# Altium integrated library My_Microchip Microcontroller 8-Bit PIC18.IntLib: 1312 symbols (part 33 of 58)
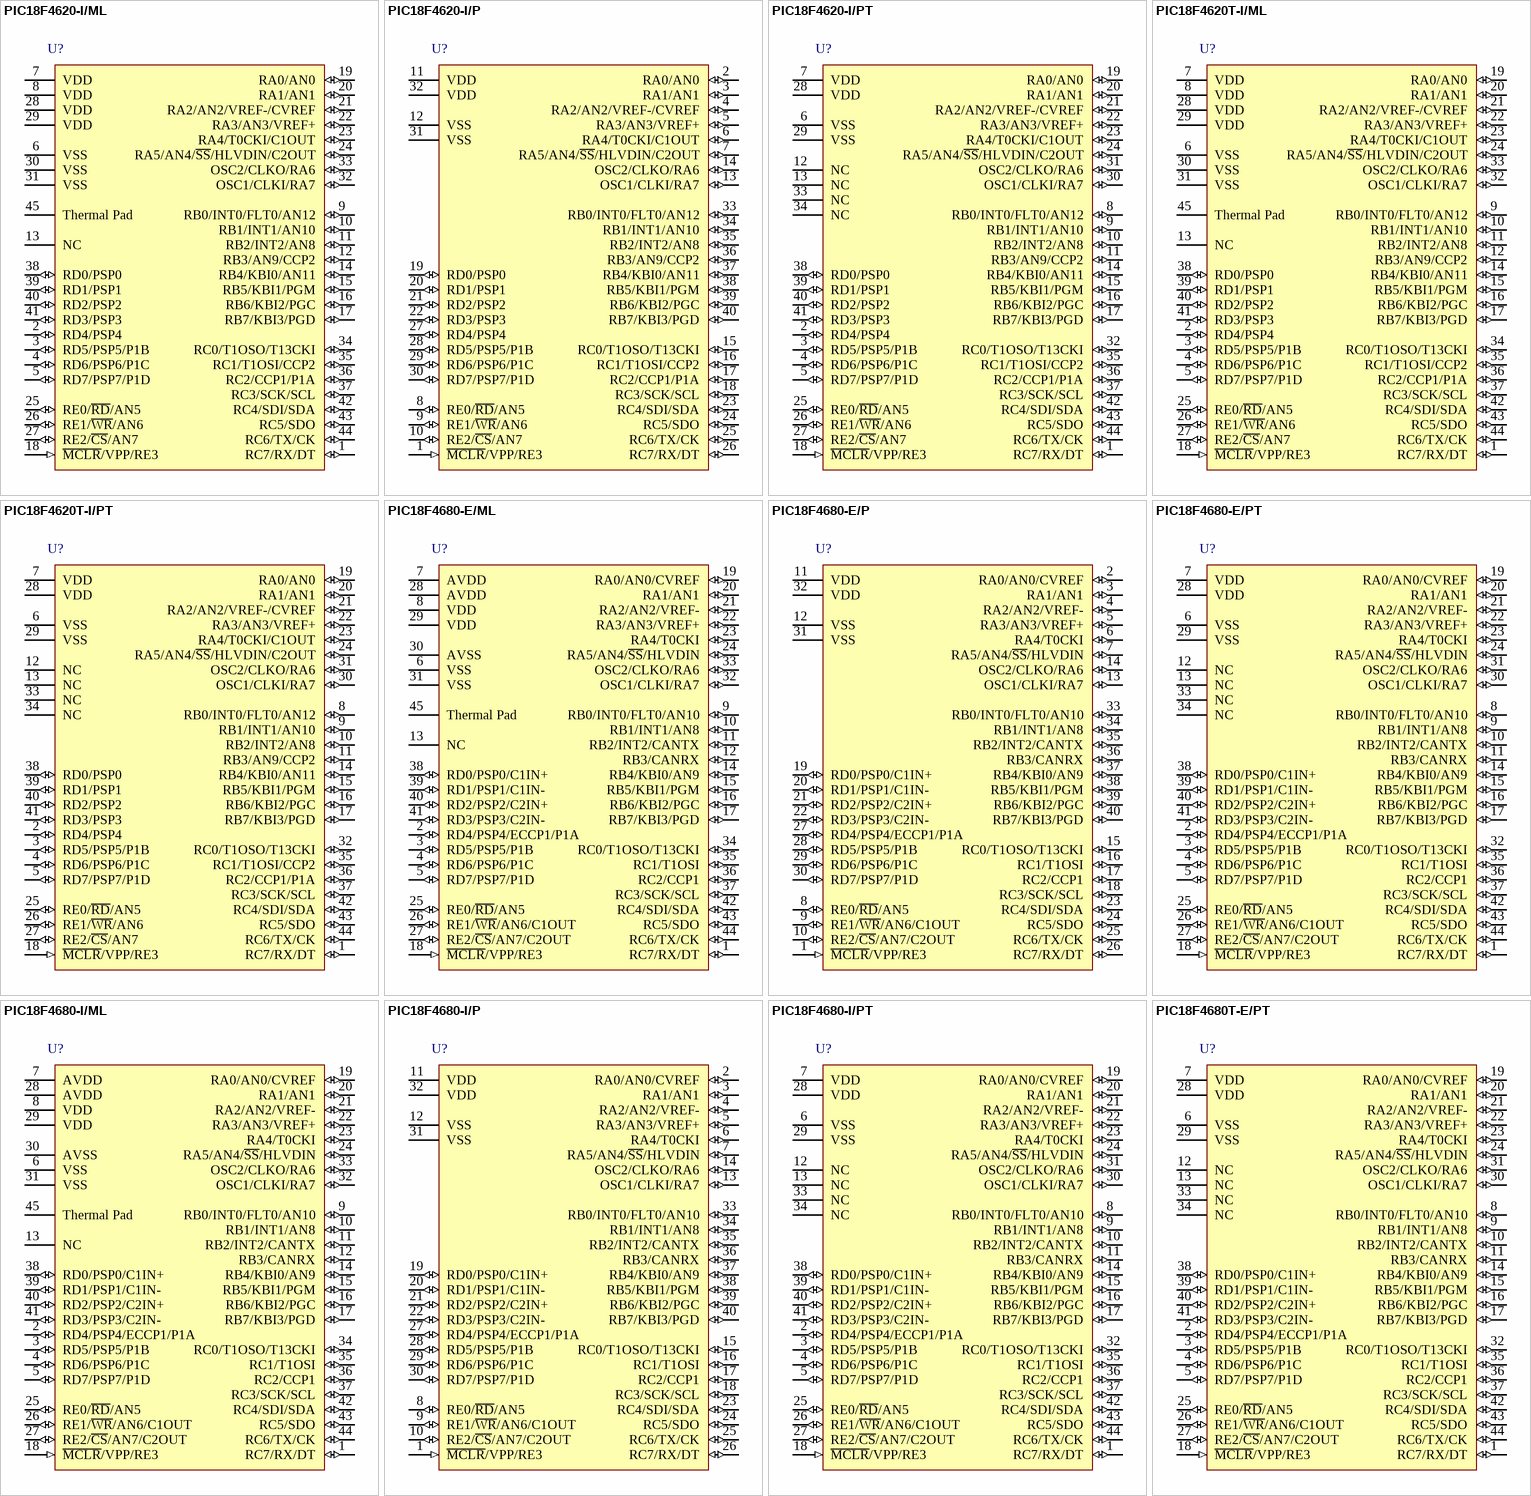
[diagram p181: symbols PIC18F4620-I/ML to PIC18F4680T-E/PT]

## PIC18F4680-I/P
designator U?
Enhanced Flash Microcontroller with ECAN Technology, 10-Bit A/D and nanoWatt Technology, 64K Flash, 40-Pin PDIP, Industrial Temperature Range; FirstPublished: 29-Jan-2009; DatasheetVersion: revC, Jan-2007; PackageVersion: revBB, Aug-2009; PackageReference: PDIP600-P40; Publisher: Altium Limited; PackageDescription: 40-Lead Plastic Dual In-Line (P) - 600 mil Body [PDIP]; Supplier 1: Digi-Key; Supplier Part Number 1: PIC18F4680-I/P-ND; Supplier 2: Farnell; Supplier Part Number 2: 1212706; Supplier 3: Farnell; Supplier Part Number 3: 1523813; Supplier 4: Newark; Supplier Part Number 4: 89H0717; ComponentLink1Description: Datasheet; ComponentLink1URL: http://ww1.microchip.com/downloads/en/DeviceDoc/39625c.pdf; ComponentLink2Description: Packaging Specification; ComponentLink2URL: http://www.microchip.com/stellent/groups/techpub_sg/documents/packagingspec/en012702.pdf; ComponentLink3Description: Microchip.com Home; ComponentLink3URL: http://www.microchip.com/
footprint PDIP600-P40 (DIP, 40-Leads, Row Spacing 15.24mm, Pitch 2.54mm, Body 51.8x13.5mm)
pins: 1 ~{MCLR}/VPP/RE3 (in), 2 RA0/AN0/CVREF (io), 3 RA1/AN1 (io), 4 RA2/AN2/VREF- (io), 5 RA3/AN3/VREF+ (io), 6 RA4/T0CKI (io), 7 RA5/AN4/~{SS}/HLVDIN (io), 8 RE0/~{RD}/AN5 (io), 9 RE1/~{WR}/AN6/C1OUT (io), 10 RE2/~{CS}/AN7/C2OUT (io), 11 VDD (power), 12 VSS (power), 13 OSC1/CLKI/RA7 (io), 14 OSC2/CLKO/RA6 (io), 15 RC0/T1OSO/T13CKI (io), 16 RC1/T1OSI (io), 17 RC2/CCP1 (io), 18 RC3/SCK/SCL (io), 19 RD0/PSP0/C1IN+ (io), 20 RD1/PSP1/C1IN- (io), 21 RD2/PSP2/C2IN+ (io), 22 RD3/PSP3/C2IN- (io), 23 RC4/SDI/SDA (io), 24 RC5/SDO (io), 25 RC6/TX/CK (io), 26 RC7/RX/DT (io), 27 RD4/PSP4/ECCP1/P1A (io), 28 RD5/PSP5/P1B (io), 29 RD6/PSP6/P1C (io), 30 RD7/PSP7/P1D (io), 31 VSS (power), 32 VDD (power), 33 RB0/INT0/FLT0/AN10 (io), 34 RB1/INT1/AN8 (io), 35 RB2/INT2/CANTX (io), 36 RB3/CANRX (io), 37 RB4/KBI0/AN9 (io), 38 RB5/KBI1/PGM (io), 39 RB6/KBI2/PGC (io), 40 RB7/KBI3/PGD (io)

## PIC18F4680-I/PT
designator U?
Enhanced Flash Microcontroller with ECAN Technology, 10-Bit A/D and nanoWatt Technology, 64K Flash, 44-Pin TQFP, Industrial Temperature Range; FirstPublished: 29-Jan-2009; DatasheetVersion: revC, Jan-2007; PackageVersion: revBB, Aug-2009; PackageReference: TQFP-PT44; Publisher: Altium Limited; PackageDescription: 44-Lead Plastic Thin Quad Flatpack (PT) - 10x10x1mm Body, 2.00mm [TQFP]; Supplier 1: Digi-Key; Supplier Part Number 1: PIC18F4680-I/PT-ND; Supplier 2: Farnell; Supplier Part Number 2: 1528364; Supplier 3: Farnell; Supplier Part Number 3: 1212707; Supplier 4: Newark; Supplier Part Number 4: 89H0718; Code_JEDEC: MS-026; ComponentLink1Description: Datasheet; ComponentLink1URL: http://ww1.microchip.com/downloads/en/DeviceDoc/39625c.pdf; ComponentLink2Description: Packaging Specification; ComponentLink2URL: http://www.microchip.com/stellent/groups/techpub_sg/documents/packagingspec/en012702.pdf; ComponentLink3Description: Microchip.com Home; ComponentLink3URL: http://www.microchip.com/
footprint TQFP-PT44_N (Thin QFP, 44-Leads, Body 10x10mm, Pitch 0.8mm, IPC Medium Density)
footprint TQFP-PT44_L (Thin QFP, 44-Leads, Body 10x10mm, Pitch 0.8mm, IPC High Density)
footprint TQFP-PT44_M (Thin QFP, 44-Leads, Body 10x10mm, Pitch 0.8mm, IPC Low Density)
pins: 1 RC7/RX/DT (io), 2 RD4/PSP4/ECCP1/P1A (io), 3 RD5/PSP5/P1B (io), 4 RD6/PSP6/P1C (io), 5 RD7/PSP7/P1D (io), 6 VSS (power), 7 VDD (power), 8 RB0/INT0/FLT0/AN10 (io), 9 RB1/INT1/AN8 (io), 10 RB2/INT2/CANTX (io), 11 RB3/CANRX (io), 12 NC, 13 NC, 14 RB4/KBI0/AN9 (io), 15 RB5/KBI1/PGM (io), 16 RB6/KBI2/PGC (io), 17 RB7/KBI3/PGD (io), 18 ~{MCLR}/VPP/RE3 (in), 19 RA0/AN0/CVREF (io), 20 RA1/AN1 (io), 21 RA2/AN2/VREF- (io), 22 RA3/AN3/VREF+ (io), 23 RA4/T0CKI (io), 24 RA5/AN4/~{SS}/HLVDIN (io), 25 RE0/~{RD}/AN5 (io), 26 RE1/~{WR}/AN6/C1OUT (io), 27 RE2/~{CS}/AN7/C2OUT (io), 28 VDD (power), 29 VSS (power), 30 OSC1/CLKI/RA7 (io), 31 OSC2/CLKO/RA6 (io), 32 RC0/T1OSO/T13CKI (io), 33 NC, 34 NC, 35 RC1/T1OSI (io), 36 RC2/CCP1 (io), 37 RC3/SCK/SCL (io), 38 RD0/PSP0/C1IN+ (io), 39 RD1/PSP1/C1IN- (io), 40 RD2/PSP2/C2IN+ (io), 41 RD3/PSP3/C2IN- (io), 42 RC4/SDI/SDA (io), 43 RC5/SDO (io), 44 RC6/TX/CK (io)

## PIC18F4680T-E/PT
designator U?
Enhanced Flash Microcontroller with ECAN Technology, 10-Bit A/D and nanoWatt Technology, 64K Flash, 44-Pin TQFP, Extended Temperature Range, Tape and Reel; FirstPublished: 2-Dec-2009; DatasheetVersion: revC, Jan-2007; PackageVersion: revBB, Aug-2009; PackageReference: TQFP-PT44; Publisher: Altium Limited; PackageDescription: 44-Lead Plastic Thin Quad Flatpack (PT) - 10x10x1mm Body, 2.00mm [TQFP]; Code_JEDEC: MS-026; ComponentLink1Description: Datasheet; ComponentLink1URL: http://ww1.microchip.com/downloads/en/DeviceDoc/39625c.pdf; ComponentLink2Description: Packaging Specification; ComponentLink2URL: http://www.microchip.com/stellent/groups/techpub_sg/documents/packagingspec/en012702.pdf; ComponentLink3Description: Microchip.com Home; ComponentLink3URL: http://www.microchip.com/
footprint TQFP-PT44_N (Thin QFP, 44-Leads, Body 10x10mm, Pitch 0.8mm, IPC Medium Density)
footprint TQFP-PT44_L (Thin QFP, 44-Leads, Body 10x10mm, Pitch 0.8mm, IPC High Density)
footprint TQFP-PT44_M (Thin QFP, 44-Leads, Body 10x10mm, Pitch 0.8mm, IPC Low Density)
pins: 1 RC7/RX/DT (io), 2 RD4/PSP4/ECCP1/P1A (io), 3 RD5/PSP5/P1B (io), 4 RD6/PSP6/P1C (io), 5 RD7/PSP7/P1D (io), 6 VSS (power), 7 VDD (power), 8 RB0/INT0/FLT0/AN10 (io), 9 RB1/INT1/AN8 (io), 10 RB2/INT2/CANTX (io), 11 RB3/CANRX (io), 12 NC, 13 NC, 14 RB4/KBI0/AN9 (io), 15 RB5/KBI1/PGM (io), 16 RB6/KBI2/PGC (io), 17 RB7/KBI3/PGD (io), 18 ~{MCLR}/VPP/RE3 (in), 19 RA0/AN0/CVREF (io), 20 RA1/AN1 (io), 21 RA2/AN2/VREF- (io), 22 RA3/AN3/VREF+ (io), 23 RA4/T0CKI (io), 24 RA5/AN4/~{SS}/HLVDIN (io), 25 RE0/~{RD}/AN5 (io), 26 RE1/~{WR}/AN6/C1OUT (io), 27 RE2/~{CS}/AN7/C2OUT (io), 28 VDD (power), 29 VSS (power), 30 OSC1/CLKI/RA7 (io), 31 OSC2/CLKO/RA6 (io), 32 RC0/T1OSO/T13CKI (io), 33 NC, 34 NC, 35 RC1/T1OSI (io), 36 RC2/CCP1 (io), 37 RC3/SCK/SCL (io), 38 RD0/PSP0/C1IN+ (io), 39 RD1/PSP1/C1IN- (io), 40 RD2/PSP2/C2IN+ (io), 41 RD3/PSP3/C2IN- (io), 42 RC4/SDI/SDA (io), 43 RC5/SDO (io), 44 RC6/TX/CK (io)

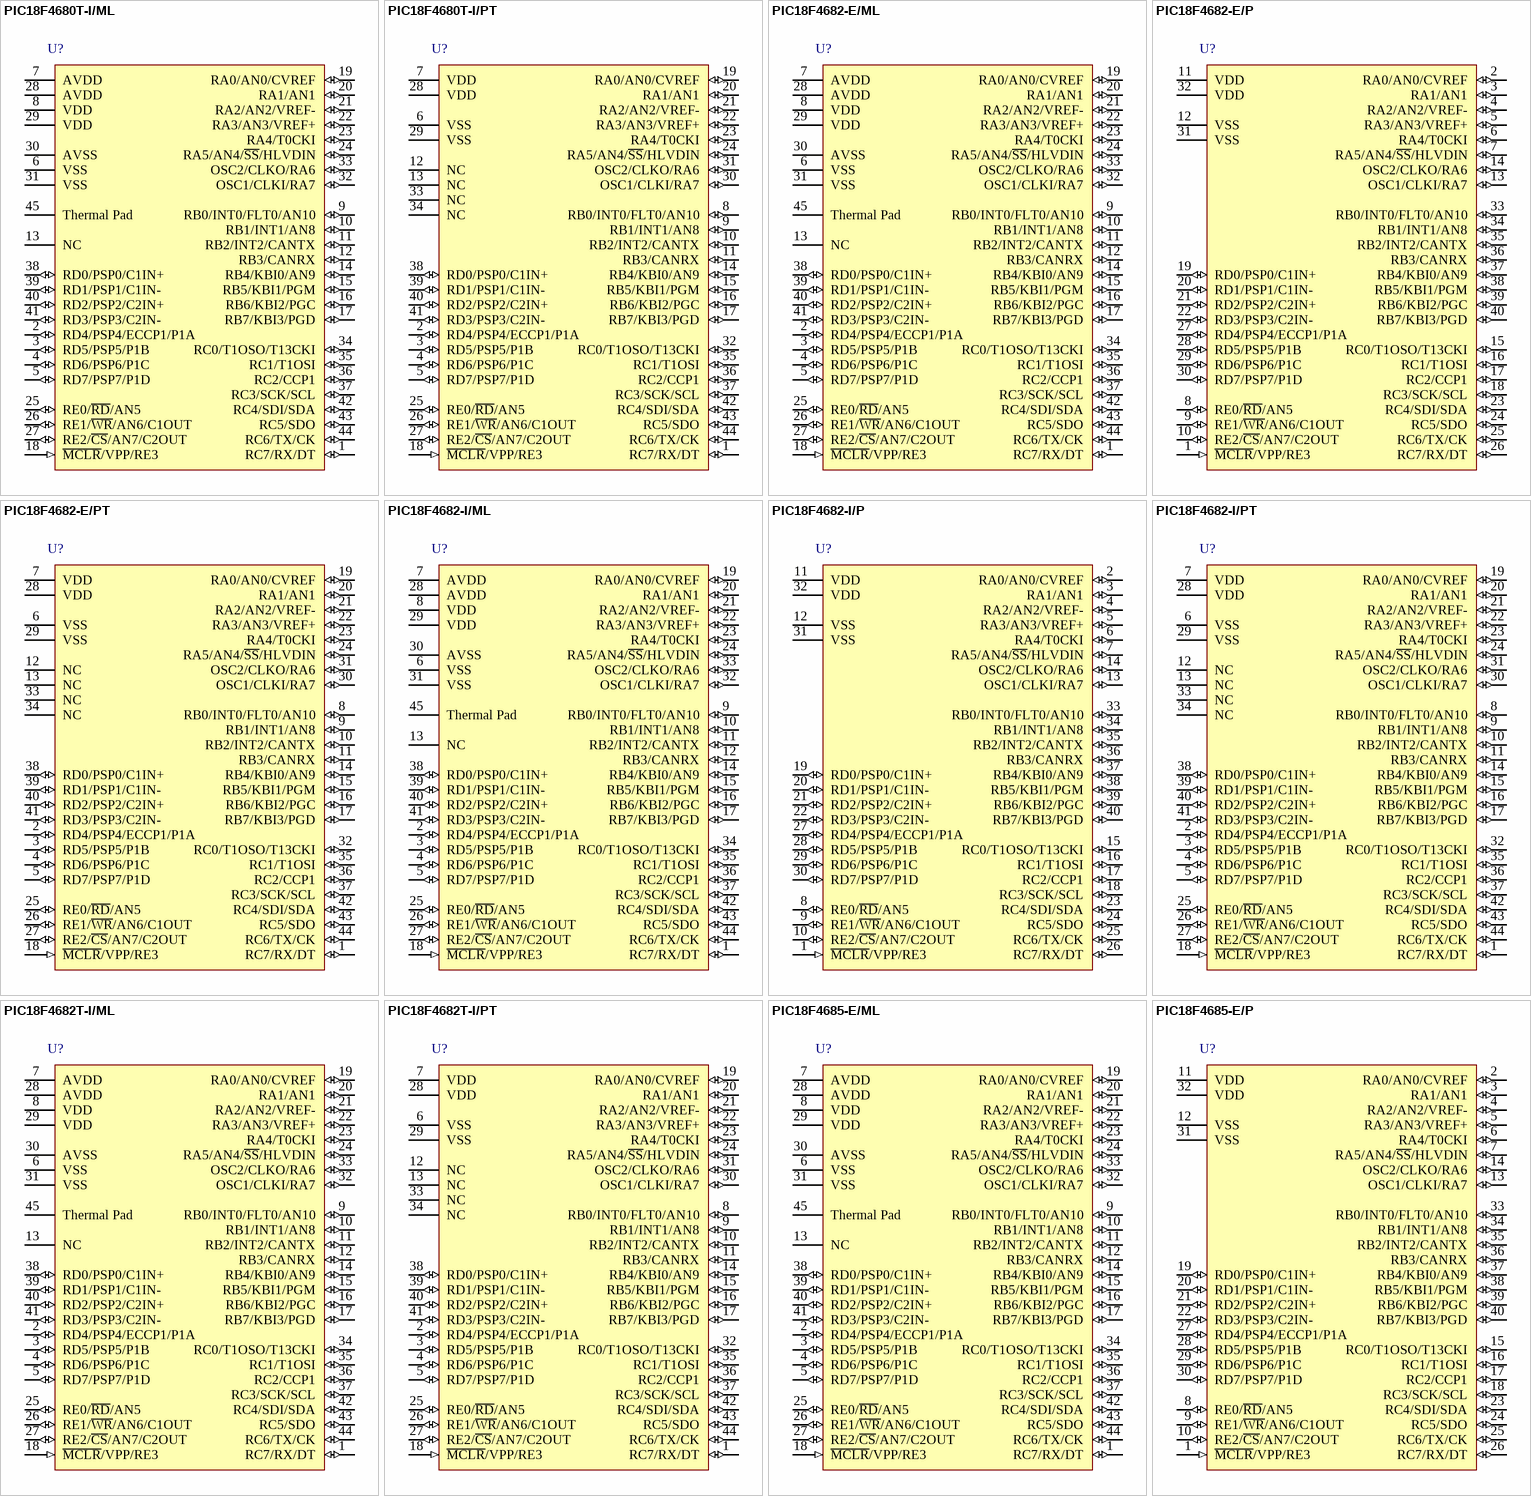
[diagram p81: symbols PIC18F4680T-I/ML to PIC18F4685-E/P]

## PIC18F4680T-I/ML
designator U?
Enhanced Flash Microcontroller with ECAN Technology, 10-Bit A/D and nanoWatt Technology, 64K Flash, 44-Pin QFN, Industrial Temperature Range, Tape and Reel; FirstPublished: 29-Jan-2009; DatasheetVersion: revC, Jan-2007; PackageVersion: revBB, Aug-2009; PackageReference: QFN-ML44; Publisher: Altium Limited; PackageDescription: 44-Lead Plastic Quad Flat, No Lead Package (ML) - 8x8 mm Body [QFN]; Supplier 1: Digi-Key; Supplier Part Number 1: PIC18F4680T-I/ML-ND; Supplier 2: Newark; Supplier Part Number 2: 89H0719; Code_JEDEC: MO-220; Code_IPC: QFN65P800X800-44V2; ComponentLink1Description: Datasheet; ComponentLink1URL: http://ww1.microchip.com/downloads/en/DeviceDoc/39625c.pdf; ComponentLink2Description: Packaging Specification; ComponentLink2URL: http://www.microchip.com/stellent/groups/techpub_sg/documents/packagingspec/en012702.pdf; ComponentLink3Description: Microchip.com Home; ComponentLink3URL: http://www.microchip.com/
footprint QFN-ML44_N (QFN, 44-Leads, Body 8x8 mm, Pitch 0.65mm, IPC Medium Density)
footprint QFN-ML44_L (QFN, 44-Leads, Body 8x8 mm, Pitch 0.65mm, IPC High Density)
footprint QFN-ML44_M (QFN, 44-Leads, Body 8x8 mm, Pitch 0.65mm, IPC Low Density)
pins: 1 RC7/RX/DT (io), 2 RD4/PSP4/ECCP1/P1A (io), 3 RD5/PSP5/P1B (io), 4 RD6/PSP6/P1C (io), 5 RD7/PSP7/P1D (io), 6 VSS (power), 7 AVDD (power), 8 VDD (power), 9 RB0/INT0/FLT0/AN10 (io), 10 RB1/INT1/AN8 (io), 11 RB2/INT2/CANTX (io), 12 RB3/CANRX (io), 13 NC, 14 RB4/KBI0/AN9 (io), 15 RB5/KBI1/PGM (io), 16 RB6/KBI2/PGC (io), 17 RB7/KBI3/PGD (io), 18 ~{MCLR}/VPP/RE3 (in), 19 RA0/AN0/CVREF (io), 20 RA1/AN1 (io), 21 RA2/AN2/VREF- (io), 22 RA3/AN3/VREF+ (io), 23 RA4/T0CKI (io), 24 RA5/AN4/~{SS}/HLVDIN (io), 25 RE0/~{RD}/AN5 (io), 26 RE1/~{WR}/AN6/C1OUT (io), 27 RE2/~{CS}/AN7/C2OUT (io), 28 AVDD (power), 29 VDD (power), 30 AVSS (power), 31 VSS (power), 32 OSC1/CLKI/RA7 (io), 33 OSC2/CLKO/RA6 (io), 34 RC0/T1OSO/T13CKI (io), 35 RC1/T1OSI (io), 36 RC2/CCP1 (io), 37 RC3/SCK/SCL (io), 38 RD0/PSP0/C1IN+ (io), 39 RD1/PSP1/C1IN- (io), 40 RD2/PSP2/C2IN+ (io), 41 RD3/PSP3/C2IN- (io), 42 RC4/SDI/SDA (io), 43 RC5/SDO (io), 44 RC6/TX/CK (io), 45 Thermal Pad (power)

## PIC18F4680T-I/PT
designator U?
Enhanced Flash Microcontroller with ECAN Technology, 10-Bit A/D and nanoWatt Technology, 64K Flash, 44-Pin TQFP, Industrial Temperature Range, Tape and Reel; FirstPublished: 29-Jan-2009; DatasheetVersion: revC, Jan-2007; PackageVersion: revBB, Aug-2009; PackageReference: TQFP-PT44; Publisher: Altium Limited; PackageDescription: 44-Lead Plastic Thin Quad Flatpack (PT) - 10x10x1mm Body, 2.00mm [TQFP]; Supplier 1: Digi-Key; Supplier Part Number 1: PIC18F4680T-I/PT-ND; Supplier 2: Newark; Supplier Part Number 2: 89H0720; Code_JEDEC: MS-026; ComponentLink1Description: Datasheet; ComponentLink1URL: http://ww1.microchip.com/downloads/en/DeviceDoc/39625c.pdf; ComponentLink2Description: Packaging Specification; ComponentLink2URL: http://www.microchip.com/stellent/groups/techpub_sg/documents/packagingspec/en012702.pdf; ComponentLink3Description: Microchip.com Home; ComponentLink3URL: http://www.microchip.com/
footprint TQFP-PT44_N (Thin QFP, 44-Leads, Body 10x10mm, Pitch 0.8mm, IPC Medium Density)
footprint TQFP-PT44_L (Thin QFP, 44-Leads, Body 10x10mm, Pitch 0.8mm, IPC High Density)
footprint TQFP-PT44_M (Thin QFP, 44-Leads, Body 10x10mm, Pitch 0.8mm, IPC Low Density)
pins: 1 RC7/RX/DT (io), 2 RD4/PSP4/ECCP1/P1A (io), 3 RD5/PSP5/P1B (io), 4 RD6/PSP6/P1C (io), 5 RD7/PSP7/P1D (io), 6 VSS (power), 7 VDD (power), 8 RB0/INT0/FLT0/AN10 (io), 9 RB1/INT1/AN8 (io), 10 RB2/INT2/CANTX (io), 11 RB3/CANRX (io), 12 NC, 13 NC, 14 RB4/KBI0/AN9 (io), 15 RB5/KBI1/PGM (io), 16 RB6/KBI2/PGC (io), 17 RB7/KBI3/PGD (io), 18 ~{MCLR}/VPP/RE3 (in), 19 RA0/AN0/CVREF (io), 20 RA1/AN1 (io), 21 RA2/AN2/VREF- (io), 22 RA3/AN3/VREF+ (io), 23 RA4/T0CKI (io), 24 RA5/AN4/~{SS}/HLVDIN (io), 25 RE0/~{RD}/AN5 (io), 26 RE1/~{WR}/AN6/C1OUT (io), 27 RE2/~{CS}/AN7/C2OUT (io), 28 VDD (power), 29 VSS (power), 30 OSC1/CLKI/RA7 (io), 31 OSC2/CLKO/RA6 (io), 32 RC0/T1OSO/T13CKI (io), 33 NC, 34 NC, 35 RC1/T1OSI (io), 36 RC2/CCP1 (io), 37 RC3/SCK/SCL (io), 38 RD0/PSP0/C1IN+ (io), 39 RD1/PSP1/C1IN- (io), 40 RD2/PSP2/C2IN+ (io), 41 RD3/PSP3/C2IN- (io), 42 RC4/SDI/SDA (io), 43 RC5/SDO (io), 44 RC6/TX/CK (io)

## PIC18F4682-E/ML
designator U?
Enhanced Flash Microcontroller with ECAN Technology, 10-Bit A/D and nanoWatt Technology, 80K Flash, 44-Pin QFN, Extended Temperature Range; FirstPublished: 29-Jan-2009; LatestRevisionDate: 02-Dec-2009; LatestRevisionNote: Updated to datasheet revision C, Oct-2009; DatasheetVersion: revC, Oct-2009; PackageVersion: revBB, Aug-2009; PackageReference: QFN-ML44; Publisher: Altium Limited; PackageDescription: 44-Lead Plastic Quad Flat, No Lead Package (ML) - 8x8 mm Body [QFN]; Supplier 1: Digi-Key; Supplier Part Number 1: PIC18F4682-E/ML-ND; Supplier 2: Newark; Supplier Part Number 2: 88K6061; Code_JEDEC: MO-220; Code_IPC: QFN65P800X800-44V2; ComponentLink1Description: Datasheet; ComponentLink1URL: http://ww1.microchip.com/downloads/en/DeviceDoc/39761c.pdf; ComponentLink2Description: Packaging Specification; ComponentLink2URL: http://www.microchip.com/stellent/groups/techpub_sg/documents/packagingspec/en012702.pdf; ComponentLink3Description: Microchip.com Home; ComponentLink3URL: http://www.microchip.com/
footprint QFN-ML44_N (QFN, 44-Leads, Body 8x8 mm, Pitch 0.65mm, IPC Medium Density)
footprint QFN-ML44_L (QFN, 44-Leads, Body 8x8 mm, Pitch 0.65mm, IPC High Density)
footprint QFN-ML44_M (QFN, 44-Leads, Body 8x8 mm, Pitch 0.65mm, IPC Low Density)
pins: 1 RC7/RX/DT (io), 2 RD4/PSP4/ECCP1/P1A (io), 3 RD5/PSP5/P1B (io), 4 RD6/PSP6/P1C (io), 5 RD7/PSP7/P1D (io), 6 VSS (power), 7 AVDD (power), 8 VDD (power), 9 RB0/INT0/FLT0/AN10 (io), 10 RB1/INT1/AN8 (io), 11 RB2/INT2/CANTX (io), 12 RB3/CANRX (io), 13 NC, 14 RB4/KBI0/AN9 (io), 15 RB5/KBI1/PGM (io), 16 RB6/KBI2/PGC (io), 17 RB7/KBI3/PGD (io), 18 ~{MCLR}/VPP/RE3 (in), 19 RA0/AN0/CVREF (io), 20 RA1/AN1 (io), 21 RA2/AN2/VREF- (io), 22 RA3/AN3/VREF+ (io), 23 RA4/T0CKI (io), 24 RA5/AN4/~{SS}/HLVDIN (io), 25 RE0/~{RD}/AN5 (io), 26 RE1/~{WR}/AN6/C1OUT (io), 27 RE2/~{CS}/AN7/C2OUT (io), 28 AVDD (power), 29 VDD (power), 30 AVSS (power), 31 VSS (power), 32 OSC1/CLKI/RA7 (io), 33 OSC2/CLKO/RA6 (io), 34 RC0/T1OSO/T13CKI (io), 35 RC1/T1OSI (io), 36 RC2/CCP1 (io), 37 RC3/SCK/SCL (io), 38 RD0/PSP0/C1IN+ (io), 39 RD1/PSP1/C1IN- (io), 40 RD2/PSP2/C2IN+ (io), 41 RD3/PSP3/C2IN- (io), 42 RC4/SDI/SDA (io), 43 RC5/SDO (io), 44 RC6/TX/CK (io), 45 Thermal Pad (power)

## PIC18F4682-E/P
designator U?
Enhanced Flash Microcontroller with ECAN Technology, 10-Bit A/D and nanoWatt Technology, 80K Flash, 40-Pin PDIP, Extended Temperature Range; FirstPublished: 29-Jan-2009; LatestRevisionDate: 02-Dec-2009; LatestRevisionNote: Updated to datasheet revision C, Oct-2009; DatasheetVersion: revC, Oct-2009; PackageVersion: revBB, Aug-2009; PackageReference: PDIP600-P40; Publisher: Altium Limited; PackageDescription: 40-Lead Plastic Dual In-Line (P) - 600 mil Body [PDIP]; Supplier 1: Digi-Key; Supplier Part Number 1: PIC18F4682-E/P-ND; Supplier 2: Newark; Supplier Part Number 2: 88K6062; ComponentLink1Description: Datasheet; ComponentLink1URL: http://ww1.microchip.com/downloads/en/DeviceDoc/39761c.pdf; ComponentLink2Description: Packaging Specification; ComponentLink2URL: http://www.microchip.com/stellent/groups/techpub_sg/documents/packagingspec/en012702.pdf; ComponentLink3Description: Microchip.com Home; ComponentLink3URL: http://www.microchip.com/
footprint PDIP600-P40 (DIP, 40-Leads, Row Spacing 15.24mm, Pitch 2.54mm, Body 51.8x13.5mm)
pins: 1 ~{MCLR}/VPP/RE3 (in), 2 RA0/AN0/CVREF (io), 3 RA1/AN1 (io), 4 RA2/AN2/VREF- (io), 5 RA3/AN3/VREF+ (io), 6 RA4/T0CKI (io), 7 RA5/AN4/~{SS}/HLVDIN (io), 8 RE0/~{RD}/AN5 (io), 9 RE1/~{WR}/AN6/C1OUT (io), 10 RE2/~{CS}/AN7/C2OUT (io), 11 VDD (power), 12 VSS (power), 13 OSC1/CLKI/RA7 (io), 14 OSC2/CLKO/RA6 (io), 15 RC0/T1OSO/T13CKI (io), 16 RC1/T1OSI (io), 17 RC2/CCP1 (io), 18 RC3/SCK/SCL (io), 19 RD0/PSP0/C1IN+ (io), 20 RD1/PSP1/C1IN- (io), 21 RD2/PSP2/C2IN+ (io), 22 RD3/PSP3/C2IN- (io), 23 RC4/SDI/SDA (io), 24 RC5/SDO (io), 25 RC6/TX/CK (io), 26 RC7/RX/DT (io), 27 RD4/PSP4/ECCP1/P1A (io), 28 RD5/PSP5/P1B (io), 29 RD6/PSP6/P1C (io), 30 RD7/PSP7/P1D (io), 31 VSS (power), 32 VDD (power), 33 RB0/INT0/FLT0/AN10 (io), 34 RB1/INT1/AN8 (io), 35 RB2/INT2/CANTX (io), 36 RB3/CANRX (io), 37 RB4/KBI0/AN9 (io), 38 RB5/KBI1/PGM (io), 39 RB6/KBI2/PGC (io), 40 RB7/KBI3/PGD (io)

## PIC18F4682-E/PT
designator U?
Enhanced Flash Microcontroller with ECAN Technology, 10-Bit A/D and nanoWatt Technology, 80K Flash, 44-Pin TQFP, Extended Temperature Range; FirstPublished: 29-Jan-2009; LatestRevisionDate: 02-Dec-2009; LatestRevisionNote: Updated to datasheet revision C, Oct-2009; DatasheetVersion: revC, Oct-2009; PackageVersion: revBB, Aug-2009; PackageReference: TQFP-PT44; Publisher: Altium Limited; PackageDescription: 44-Lead Plastic Thin Quad Flatpack (PT) - 10x10x1mm Body, 2.00mm [TQFP]; Supplier 1: Digi-Key; Supplier Part Number 1: PIC18F4682-E/PT-ND; Supplier 2: Newark; Supplier Part Number 2: 88K6063; Code_JEDEC: MS-026; ComponentLink1Description: Datasheet; ComponentLink1URL: http://ww1.microchip.com/downloads/en/DeviceDoc/39761c.pdf; ComponentLink2Description: Packaging Specification; ComponentLink2URL: http://www.microchip.com/stellent/groups/techpub_sg/documents/packagingspec/en012702.pdf; ComponentLink3Description: Microchip.com Home; ComponentLink3URL: http://www.microchip.com/
footprint TQFP-PT44_N (Thin QFP, 44-Leads, Body 10x10mm, Pitch 0.8mm, IPC Medium Density)
footprint TQFP-PT44_L (Thin QFP, 44-Leads, Body 10x10mm, Pitch 0.8mm, IPC High Density)
footprint TQFP-PT44_M (Thin QFP, 44-Leads, Body 10x10mm, Pitch 0.8mm, IPC Low Density)
pins: 1 RC7/RX/DT (io), 2 RD4/PSP4/ECCP1/P1A (io), 3 RD5/PSP5/P1B (io), 4 RD6/PSP6/P1C (io), 5 RD7/PSP7/P1D (io), 6 VSS (power), 7 VDD (power), 8 RB0/INT0/FLT0/AN10 (io), 9 RB1/INT1/AN8 (io), 10 RB2/INT2/CANTX (io), 11 RB3/CANRX (io), 12 NC, 13 NC, 14 RB4/KBI0/AN9 (io), 15 RB5/KBI1/PGM (io), 16 RB6/KBI2/PGC (io), 17 RB7/KBI3/PGD (io), 18 ~{MCLR}/VPP/RE3 (in), 19 RA0/AN0/CVREF (io), 20 RA1/AN1 (io), 21 RA2/AN2/VREF- (io), 22 RA3/AN3/VREF+ (io), 23 RA4/T0CKI (io), 24 RA5/AN4/~{SS}/HLVDIN (io), 25 RE0/~{RD}/AN5 (io), 26 RE1/~{WR}/AN6/C1OUT (io), 27 RE2/~{CS}/AN7/C2OUT (io), 28 VDD (power), 29 VSS (power), 30 OSC1/CLKI/RA7 (io), 31 OSC2/CLKO/RA6 (io), 32 RC0/T1OSO/T13CKI (io), 33 NC, 34 NC, 35 RC1/T1OSI (io), 36 RC2/CCP1 (io), 37 RC3/SCK/SCL (io), 38 RD0/PSP0/C1IN+ (io), 39 RD1/PSP1/C1IN- (io), 40 RD2/PSP2/C2IN+ (io), 41 RD3/PSP3/C2IN- (io), 42 RC4/SDI/SDA (io), 43 RC5/SDO (io), 44 RC6/TX/CK (io)

## PIC18F4682-I/ML
designator U?
Enhanced Flash Microcontroller with ECAN Technology, 10-Bit A/D and nanoWatt Technology, 80K Flash, 44-Pin QFN, Industrial Temperature Range; FirstPublished: 29-Jan-2009; LatestRevisionDate: 02-Dec-2009; LatestRevisionNote: Updated to datasheet revision C, Oct-2009; DatasheetVersion: revC, Oct-2009; PackageVersion: revBB, Aug-2009; PackageReference: QFN-ML44; Publisher: Altium Limited; PackageDescription: 44-Lead Plastic Quad Flat, No Lead Package (ML) - 8x8 mm Body [QFN]; Supplier 1: Digi-Key; Supplier Part Number 1: PIC18F4682-I/ML-ND; Supplier 2: Newark; Supplier Part Number 2: 88K6064; Code_JEDEC: MO-220; Code_IPC: QFN65P800X800-44V2; ComponentLink1Description: Datasheet; ComponentLink1URL: http://ww1.microchip.com/downloads/en/DeviceDoc/39761c.pdf; ComponentLink2Description: Packaging Specification; ComponentLink2URL: http://www.microchip.com/stellent/groups/techpub_sg/documents/packagingspec/en012702.pdf; ComponentLink3Description: Microchip.com Home; ComponentLink3URL: http://www.microchip.com/
footprint QFN-ML44_N (QFN, 44-Leads, Body 8x8 mm, Pitch 0.65mm, IPC Medium Density)
footprint QFN-ML44_L (QFN, 44-Leads, Body 8x8 mm, Pitch 0.65mm, IPC High Density)
footprint QFN-ML44_M (QFN, 44-Leads, Body 8x8 mm, Pitch 0.65mm, IPC Low Density)
pins: 1 RC7/RX/DT (io), 2 RD4/PSP4/ECCP1/P1A (io), 3 RD5/PSP5/P1B (io), 4 RD6/PSP6/P1C (io), 5 RD7/PSP7/P1D (io), 6 VSS (power), 7 AVDD (power), 8 VDD (power), 9 RB0/INT0/FLT0/AN10 (io), 10 RB1/INT1/AN8 (io), 11 RB2/INT2/CANTX (io), 12 RB3/CANRX (io), 13 NC, 14 RB4/KBI0/AN9 (io), 15 RB5/KBI1/PGM (io), 16 RB6/KBI2/PGC (io), 17 RB7/KBI3/PGD (io), 18 ~{MCLR}/VPP/RE3 (in), 19 RA0/AN0/CVREF (io), 20 RA1/AN1 (io), 21 RA2/AN2/VREF- (io), 22 RA3/AN3/VREF+ (io), 23 RA4/T0CKI (io), 24 RA5/AN4/~{SS}/HLVDIN (io), 25 RE0/~{RD}/AN5 (io), 26 RE1/~{WR}/AN6/C1OUT (io), 27 RE2/~{CS}/AN7/C2OUT (io), 28 AVDD (power), 29 VDD (power), 30 AVSS (power), 31 VSS (power), 32 OSC1/CLKI/RA7 (io), 33 OSC2/CLKO/RA6 (io), 34 RC0/T1OSO/T13CKI (io), 35 RC1/T1OSI (io), 36 RC2/CCP1 (io), 37 RC3/SCK/SCL (io), 38 RD0/PSP0/C1IN+ (io), 39 RD1/PSP1/C1IN- (io), 40 RD2/PSP2/C2IN+ (io), 41 RD3/PSP3/C2IN- (io), 42 RC4/SDI/SDA (io), 43 RC5/SDO (io), 44 RC6/TX/CK (io), 45 Thermal Pad (power)

## PIC18F4682-I/P
designator U?
Enhanced Flash Microcontroller with ECAN Technology, 10-Bit A/D and nanoWatt Technology, 80K Flash, 40-Pin PDIP, Industrial Temperature Range; FirstPublished: 29-Jan-2009; LatestRevisionDate: 02-Dec-2009; LatestRevisionNote: Updated to datasheet revision C, Oct-2009; DatasheetVersion: revC, Oct-2009; PackageVersion: revBB, Aug-2009; PackageReference: PDIP600-P40; Publisher: Altium Limited; PackageDescription: 40-Lead Plastic Dual In-Line (P) - 600 mil Body [PDIP]; Supplier 1: Digi-Key; Supplier Part Number 1: PIC18F4682-I/P-ND; Supplier 2: Farnell; Supplier Part Number 2: 1579609; Supplier 3: Newark; Supplier Part Number 3: 88K6065; ComponentLink1Description: Datasheet; ComponentLink1URL: http://ww1.microchip.com/downloads/en/DeviceDoc/39761c.pdf; ComponentLink2Description: Packaging Specification; ComponentLink2URL: http://www.microchip.com/stellent/groups/techpub_sg/documents/packagingspec/en012702.pdf; ComponentLink3Description: Microchip.com Home; ComponentLink3URL: http://www.microchip.com/
footprint PDIP600-P40 (DIP, 40-Leads, Row Spacing 15.24mm, Pitch 2.54mm, Body 51.8x13.5mm)
pins: 1 ~{MCLR}/VPP/RE3 (in), 2 RA0/AN0/CVREF (io), 3 RA1/AN1 (io), 4 RA2/AN2/VREF- (io), 5 RA3/AN3/VREF+ (io), 6 RA4/T0CKI (io), 7 RA5/AN4/~{SS}/HLVDIN (io), 8 RE0/~{RD}/AN5 (io), 9 RE1/~{WR}/AN6/C1OUT (io), 10 RE2/~{CS}/AN7/C2OUT (io), 11 VDD (power), 12 VSS (power), 13 OSC1/CLKI/RA7 (io), 14 OSC2/CLKO/RA6 (io), 15 RC0/T1OSO/T13CKI (io), 16 RC1/T1OSI (io), 17 RC2/CCP1 (io), 18 RC3/SCK/SCL (io), 19 RD0/PSP0/C1IN+ (io), 20 RD1/PSP1/C1IN- (io), 21 RD2/PSP2/C2IN+ (io), 22 RD3/PSP3/C2IN- (io), 23 RC4/SDI/SDA (io), 24 RC5/SDO (io), 25 RC6/TX/CK (io), 26 RC7/RX/DT (io), 27 RD4/PSP4/ECCP1/P1A (io), 28 RD5/PSP5/P1B (io), 29 RD6/PSP6/P1C (io), 30 RD7/PSP7/P1D (io), 31 VSS (power), 32 VDD (power), 33 RB0/INT0/FLT0/AN10 (io), 34 RB1/INT1/AN8 (io), 35 RB2/INT2/CANTX (io), 36 RB3/CANRX (io), 37 RB4/KBI0/AN9 (io), 38 RB5/KBI1/PGM (io), 39 RB6/KBI2/PGC (io), 40 RB7/KBI3/PGD (io)

## PIC18F4682-I/PT
designator U?
Enhanced Flash Microcontroller with ECAN Technology, 10-Bit A/D and nanoWatt Technology, 80K Flash, 44-Pin TQFP, Industrial Temperature Range; FirstPublished: 29-Jan-2009; LatestRevisionDate: 02-Dec-2009; LatestRevisionNote: Updated to datasheet revision C, Oct-2009; DatasheetVersion: revC, Oct-2009; PackageVersion: revBB, Aug-2009; PackageReference: TQFP-PT44; Publisher: Altium Limited; PackageDescription: 44-Lead Plastic Thin Quad Flatpack (PT) - 10x10x1mm Body, 2.00mm [TQFP]; Supplier 1: Digi-Key; Supplier Part Number 1: PIC18F4682-I/PT-ND; Supplier 2: Farnell; Supplier Part Number 2: 1268862; Supplier 3: Newark; Supplier Part Number 3: 88K6066; Code_JEDEC: MS-026; ComponentLink1Description: Datasheet; ComponentLink1URL: http://ww1.microchip.com/downloads/en/DeviceDoc/39761c.pdf; ComponentLink2Description: Packaging Specification; ComponentLink2URL: http://www.microchip.com/stellent/groups/techpub_sg/documents/packagingspec/en012702.pdf; ComponentLink3Description: Microchip.com Home; ComponentLink3URL: http://www.microchip.com/
footprint TQFP-PT44_N (Thin QFP, 44-Leads, Body 10x10mm, Pitch 0.8mm, IPC Medium Density)
footprint TQFP-PT44_L (Thin QFP, 44-Leads, Body 10x10mm, Pitch 0.8mm, IPC High Density)
footprint TQFP-PT44_M (Thin QFP, 44-Leads, Body 10x10mm, Pitch 0.8mm, IPC Low Density)
pins: 1 RC7/RX/DT (io), 2 RD4/PSP4/ECCP1/P1A (io), 3 RD5/PSP5/P1B (io), 4 RD6/PSP6/P1C (io), 5 RD7/PSP7/P1D (io), 6 VSS (power), 7 VDD (power), 8 RB0/INT0/FLT0/AN10 (io), 9 RB1/INT1/AN8 (io), 10 RB2/INT2/CANTX (io), 11 RB3/CANRX (io), 12 NC, 13 NC, 14 RB4/KBI0/AN9 (io), 15 RB5/KBI1/PGM (io), 16 RB6/KBI2/PGC (io), 17 RB7/KBI3/PGD (io), 18 ~{MCLR}/VPP/RE3 (in), 19 RA0/AN0/CVREF (io), 20 RA1/AN1 (io), 21 RA2/AN2/VREF- (io), 22 RA3/AN3/VREF+ (io), 23 RA4/T0CKI (io), 24 RA5/AN4/~{SS}/HLVDIN (io), 25 RE0/~{RD}/AN5 (io), 26 RE1/~{WR}/AN6/C1OUT (io), 27 RE2/~{CS}/AN7/C2OUT (io), 28 VDD (power), 29 VSS (power), 30 OSC1/CLKI/RA7 (io), 31 OSC2/CLKO/RA6 (io), 32 RC0/T1OSO/T13CKI (io), 33 NC, 34 NC, 35 RC1/T1OSI (io), 36 RC2/CCP1 (io), 37 RC3/SCK/SCL (io), 38 RD0/PSP0/C1IN+ (io), 39 RD1/PSP1/C1IN- (io), 40 RD2/PSP2/C2IN+ (io), 41 RD3/PSP3/C2IN- (io), 42 RC4/SDI/SDA (io), 43 RC5/SDO (io), 44 RC6/TX/CK (io)

## PIC18F4682T-I/ML
designator U?
Enhanced Flash Microcontroller with ECAN Technology, 10-Bit A/D and nanoWatt Technology, 80K Flash, 44-Pin QFN, Industrial Temperature Range; ComponentAvailability: Unknown. Contact manufacturer to determine status.; FirstPublished: 29-Jan-2009; LatestRevisionDate: 02-Dec-2009; LatestRevisionNote: Updated to datasheet revision C, Oct-2009; DatasheetVersion: revC, Oct-2009; PackageVersion: revBB, Aug-2009; PackageReference: QFN-ML44; Publisher: Altium Limited; PackageDescription: 44-Lead Plastic Quad Flat, No Lead Package (ML) - 8x8 mm Body [QFN]; Supplier 1: Digi-Key; Supplier Part Number 1: PIC18F4682T-I/ML-ND; Supplier 2: Newark; Supplier Part Number 2: 88K6067; Code_JEDEC: MO-220; Code_IPC: QFN65P800X800-44V2; ComponentLink1Description: Datasheet; ComponentLink1URL: http://ww1.microchip.com/downloads/en/DeviceDoc/39761c.pdf; ComponentLink2Description: Packaging Specification; ComponentLink2URL: http://www.microchip.com/stellent/groups/techpub_sg/documents/packagingspec/en012702.pdf; ComponentLink3Description: Microchip.com Home; ComponentLink3URL: http://www.microchip.com/
footprint QFN-ML44_N (QFN, 44-Leads, Body 8x8 mm, Pitch 0.65mm, IPC Medium Density)
footprint QFN-ML44_L (QFN, 44-Leads, Body 8x8 mm, Pitch 0.65mm, IPC High Density)
footprint QFN-ML44_M (QFN, 44-Leads, Body 8x8 mm, Pitch 0.65mm, IPC Low Density)
pins: 1 RC7/RX/DT (io), 2 RD4/PSP4/ECCP1/P1A (io), 3 RD5/PSP5/P1B (io), 4 RD6/PSP6/P1C (io), 5 RD7/PSP7/P1D (io), 6 VSS (power), 7 AVDD (power), 8 VDD (power), 9 RB0/INT0/FLT0/AN10 (io), 10 RB1/INT1/AN8 (io), 11 RB2/INT2/CANTX (io), 12 RB3/CANRX (io), 13 NC, 14 RB4/KBI0/AN9 (io), 15 RB5/KBI1/PGM (io), 16 RB6/KBI2/PGC (io), 17 RB7/KBI3/PGD (io), 18 ~{MCLR}/VPP/RE3 (in), 19 RA0/AN0/CVREF (io), 20 RA1/AN1 (io), 21 RA2/AN2/VREF- (io), 22 RA3/AN3/VREF+ (io), 23 RA4/T0CKI (io), 24 RA5/AN4/~{SS}/HLVDIN (io), 25 RE0/~{RD}/AN5 (io), 26 RE1/~{WR}/AN6/C1OUT (io), 27 RE2/~{CS}/AN7/C2OUT (io), 28 AVDD (power), 29 VDD (power), 30 AVSS (power), 31 VSS (power), 32 OSC1/CLKI/RA7 (io), 33 OSC2/CLKO/RA6 (io), 34 RC0/T1OSO/T13CKI (io), 35 RC1/T1OSI (io), 36 RC2/CCP1 (io), 37 RC3/SCK/SCL (io), 38 RD0/PSP0/C1IN+ (io), 39 RD1/PSP1/C1IN- (io), 40 RD2/PSP2/C2IN+ (io), 41 RD3/PSP3/C2IN- (io), 42 RC4/SDI/SDA (io), 43 RC5/SDO (io), 44 RC6/TX/CK (io), 45 Thermal Pad (power)

## PIC18F4682T-I/PT
designator U?
Enhanced Flash Microcontroller with ECAN Technology, 10-Bit A/D and nanoWatt Technology, 80K Flash, 44-Pin TQFP, Industrial Temperature Range, Tape and Reel; FirstPublished: 29-Jan-2009; LatestRevisionDate: 02-Dec-2009; LatestRevisionNote: Updated to datasheet revision C, Oct-2009; DatasheetVersion: revC, Oct-2009; PackageVersion: revBB, Aug-2009; PackageReference: TQFP-PT44; Publisher: Altium Limited; PackageDescription: 44-Lead Plastic Thin Quad Flatpack (PT) - 10x10x1mm Body, 2.00mm [TQFP]; Supplier 1: Digi-Key; Supplier Part Number 1: PIC18F4682T-I/PT-ND; Supplier 2: Newark; Supplier Part Number 2: 88K6068; Code_JEDEC: MS-026; ComponentLink1Description: Datasheet; ComponentLink1URL: http://ww1.microchip.com/downloads/en/DeviceDoc/39761c.pdf; ComponentLink2Description: Packaging Specification; ComponentLink2URL: http://www.microchip.com/stellent/groups/techpub_sg/documents/packagingspec/en012702.pdf; ComponentLink3Description: Microchip.com Home; ComponentLink3URL: http://www.microchip.com/
footprint TQFP-PT44_N (Thin QFP, 44-Leads, Body 10x10mm, Pitch 0.8mm, IPC Medium Density)
footprint TQFP-PT44_L (Thin QFP, 44-Leads, Body 10x10mm, Pitch 0.8mm, IPC High Density)
footprint TQFP-PT44_M (Thin QFP, 44-Leads, Body 10x10mm, Pitch 0.8mm, IPC Low Density)
pins: 1 RC7/RX/DT (io), 2 RD4/PSP4/ECCP1/P1A (io), 3 RD5/PSP5/P1B (io), 4 RD6/PSP6/P1C (io), 5 RD7/PSP7/P1D (io), 6 VSS (power), 7 VDD (power), 8 RB0/INT0/FLT0/AN10 (io), 9 RB1/INT1/AN8 (io), 10 RB2/INT2/CANTX (io), 11 RB3/CANRX (io), 12 NC, 13 NC, 14 RB4/KBI0/AN9 (io), 15 RB5/KBI1/PGM (io), 16 RB6/KBI2/PGC (io), 17 RB7/KBI3/PGD (io), 18 ~{MCLR}/VPP/RE3 (in), 19 RA0/AN0/CVREF (io), 20 RA1/AN1 (io), 21 RA2/AN2/VREF- (io), 22 RA3/AN3/VREF+ (io), 23 RA4/T0CKI (io), 24 RA5/AN4/~{SS}/HLVDIN (io), 25 RE0/~{RD}/AN5 (io), 26 RE1/~{WR}/AN6/C1OUT (io), 27 RE2/~{CS}/AN7/C2OUT (io), 28 VDD (power), 29 VSS (power), 30 OSC1/CLKI/RA7 (io), 31 OSC2/CLKO/RA6 (io), 32 RC0/T1OSO/T13CKI (io), 33 NC, 34 NC, 35 RC1/T1OSI (io), 36 RC2/CCP1 (io), 37 RC3/SCK/SCL (io), 38 RD0/PSP0/C1IN+ (io), 39 RD1/PSP1/C1IN- (io), 40 RD2/PSP2/C2IN+ (io), 41 RD3/PSP3/C2IN- (io), 42 RC4/SDI/SDA (io), 43 RC5/SDO (io), 44 RC6/TX/CK (io)

## PIC18F4685-E/ML
designator U?
Enhanced Flash Microcontroller with ECAN Technology, 10-Bit A/D and nanoWatt Technology, 96K Flash, 44-Pin QFN, Extended Temperature Range; FirstPublished: 29-Jan-2009; LatestRevisionDate: 02-Dec-2009; LatestRevisionNote: Updated to datasheet revision C, Oct-2009; DatasheetVersion: revC, Oct-2009; PackageVersion: revBB, Aug-2009; PackageReference: QFN-ML44; Publisher: Altium Limited; PackageDescription: 44-Lead Plastic Quad Flat, No Lead Package (ML) - 8x8 mm Body [QFN]; Supplier 1: Digi-Key; Supplier Part Number 1: PIC18F4685-E/ML-ND; Supplier 2: Newark; Supplier Part Number 2: 88K6069; Code_JEDEC: MO-220; Code_IPC: QFN65P800X800-44V2; ComponentLink1Description: Datasheet; ComponentLink1URL: http://ww1.microchip.com/downloads/en/DeviceDoc/39761c.pdf; ComponentLink2Description: Packaging Specification; ComponentLink2URL: http://www.microchip.com/stellent/groups/techpub_sg/documents/packagingspec/en012702.pdf; ComponentLink3Description: Microchip.com Home; ComponentLink3URL: http://www.microchip.com/
footprint QFN-ML44_N (QFN, 44-Leads, Body 8x8 mm, Pitch 0.65mm, IPC Medium Density)
footprint QFN-ML44_L (QFN, 44-Leads, Body 8x8 mm, Pitch 0.65mm, IPC High Density)
footprint QFN-ML44_M (QFN, 44-Leads, Body 8x8 mm, Pitch 0.65mm, IPC Low Density)
pins: 1 RC7/RX/DT (io), 2 RD4/PSP4/ECCP1/P1A (io), 3 RD5/PSP5/P1B (io), 4 RD6/PSP6/P1C (io), 5 RD7/PSP7/P1D (io), 6 VSS (power), 7 AVDD (power), 8 VDD (power), 9 RB0/INT0/FLT0/AN10 (io), 10 RB1/INT1/AN8 (io), 11 RB2/INT2/CANTX (io), 12 RB3/CANRX (io), 13 NC, 14 RB4/KBI0/AN9 (io), 15 RB5/KBI1/PGM (io), 16 RB6/KBI2/PGC (io), 17 RB7/KBI3/PGD (io), 18 ~{MCLR}/VPP/RE3 (in), 19 RA0/AN0/CVREF (io), 20 RA1/AN1 (io), 21 RA2/AN2/VREF- (io), 22 RA3/AN3/VREF+ (io), 23 RA4/T0CKI (io), 24 RA5/AN4/~{SS}/HLVDIN (io), 25 RE0/~{RD}/AN5 (io), 26 RE1/~{WR}/AN6/C1OUT (io), 27 RE2/~{CS}/AN7/C2OUT (io), 28 AVDD (power), 29 VDD (power), 30 AVSS (power), 31 VSS (power), 32 OSC1/CLKI/RA7 (io), 33 OSC2/CLKO/RA6 (io), 34 RC0/T1OSO/T13CKI (io), 35 RC1/T1OSI (io), 36 RC2/CCP1 (io), 37 RC3/SCK/SCL (io), 38 RD0/PSP0/C1IN+ (io), 39 RD1/PSP1/C1IN- (io), 40 RD2/PSP2/C2IN+ (io), 41 RD3/PSP3/C2IN- (io), 42 RC4/SDI/SDA (io), 43 RC5/SDO (io), 44 RC6/TX/CK (io), 45 Thermal Pad (power)

## PIC18F4685-E/P
designator U?
Enhanced Flash Microcontroller with ECAN Technology, 10-Bit A/D and nanoWatt Technology, 96K Flash, 40-Pin PDIP, Extended Temperature Range; FirstPublished: 29-Jan-2009; LatestRevisionDate: 02-Dec-2009; LatestRevisionNote: Updated to datasheet revision C, Oct-2009; DatasheetVersion: revC, Oct-2009; PackageVersion: revBB, Aug-2009; PackageReference: PDIP600-P40; Publisher: Altium Limited; PackageDescription: 40-Lead Plastic Dual In-Line (P) - 600 mil Body [PDIP]; Supplier 1: Digi-Key; Supplier Part Number 1: PIC18F4685-E/P-ND; Supplier 2: Newark; Supplier Part Number 2: 88K6070; ComponentLink1Description: Datasheet; ComponentLink1URL: http://ww1.microchip.com/downloads/en/DeviceDoc/39761c.pdf; ComponentLink2Description: Packaging Specification; ComponentLink2URL: http://www.microchip.com/stellent/groups/techpub_sg/documents/packagingspec/en012702.pdf; ComponentLink3Description: Microchip.com Home; ComponentLink3URL: http://www.microchip.com/
footprint PDIP600-P40 (DIP, 40-Leads, Row Spacing 15.24mm, Pitch 2.54mm, Body 51.8x13.5mm)
pins: 1 ~{MCLR}/VPP/RE3 (in), 2 RA0/AN0/CVREF (io), 3 RA1/AN1 (io), 4 RA2/AN2/VREF- (io), 5 RA3/AN3/VREF+ (io), 6 RA4/T0CKI (io), 7 RA5/AN4/~{SS}/HLVDIN (io), 8 RE0/~{RD}/AN5 (io), 9 RE1/~{WR}/AN6/C1OUT (io), 10 RE2/~{CS}/AN7/C2OUT (io), 11 VDD (power), 12 VSS (power), 13 OSC1/CLKI/RA7 (io), 14 OSC2/CLKO/RA6 (io), 15 RC0/T1OSO/T13CKI (io), 16 RC1/T1OSI (io), 17 RC2/CCP1 (io), 18 RC3/SCK/SCL (io), 19 RD0/PSP0/C1IN+ (io), 20 RD1/PSP1/C1IN- (io), 21 RD2/PSP2/C2IN+ (io), 22 RD3/PSP3/C2IN- (io), 23 RC4/SDI/SDA (io), 24 RC5/SDO (io), 25 RC6/TX/CK (io), 26 RC7/RX/DT (io), 27 RD4/PSP4/ECCP1/P1A (io), 28 RD5/PSP5/P1B (io), 29 RD6/PSP6/P1C (io), 30 RD7/PSP7/P1D (io), 31 VSS (power), 32 VDD (power), 33 RB0/INT0/FLT0/AN10 (io), 34 RB1/INT1/AN8 (io), 35 RB2/INT2/CANTX (io), 36 RB3/CANRX (io), 37 RB4/KBI0/AN9 (io), 38 RB5/KBI1/PGM (io), 39 RB6/KBI2/PGC (io), 40 RB7/KBI3/PGD (io)

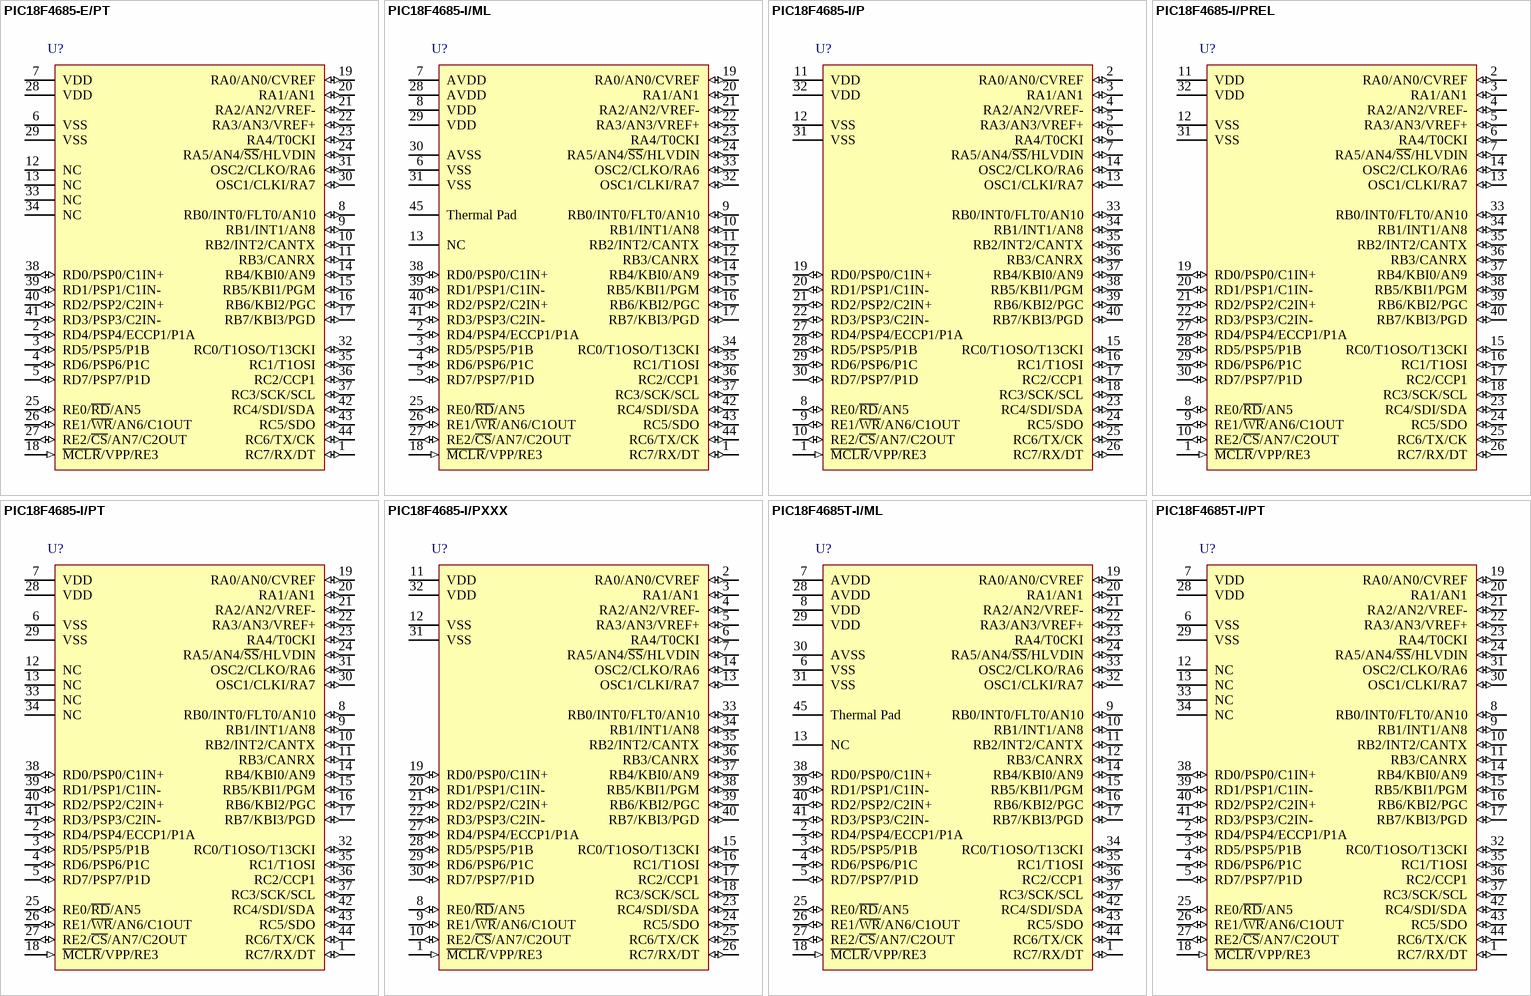
[diagram p82: symbols PIC18F4685-E/PT to PIC18F4685T-I/PT]

## PIC18F4685-E/PT
designator U?
Enhanced Flash Microcontroller with ECAN Technology, 10-Bit A/D and nanoWatt Technology, 96K Flash, 44-Pin TQFP, Extended Temperature Range; FirstPublished: 29-Jan-2009; LatestRevisionDate: 02-Dec-2009; LatestRevisionNote: Updated to datasheet revision C, Oct-2009; DatasheetVersion: revC, Oct-2009; PackageVersion: revBB, Aug-2009; PackageReference: TQFP-PT44; Publisher: Altium Limited; PackageDescription: 44-Lead Plastic Thin Quad Flatpack (PT) - 10x10x1mm Body, 2.00mm [TQFP]; Supplier 1: Digi-Key; Supplier Part Number 1: PIC18F4685-E/PT-ND; Supplier 2: Newark; Supplier Part Number 2: 88K6071; Code_JEDEC: MS-026; ComponentLink1Description: Datasheet; ComponentLink1URL: http://ww1.microchip.com/downloads/en/DeviceDoc/39761c.pdf; ComponentLink2Description: Packaging Specification; ComponentLink2URL: http://www.microchip.com/stellent/groups/techpub_sg/documents/packagingspec/en012702.pdf; ComponentLink3Description: Microchip.com Home; ComponentLink3URL: http://www.microchip.com/
footprint TQFP-PT44_N (Thin QFP, 44-Leads, Body 10x10mm, Pitch 0.8mm, IPC Medium Density)
footprint TQFP-PT44_L (Thin QFP, 44-Leads, Body 10x10mm, Pitch 0.8mm, IPC High Density)
footprint TQFP-PT44_M (Thin QFP, 44-Leads, Body 10x10mm, Pitch 0.8mm, IPC Low Density)
pins: 1 RC7/RX/DT (io), 2 RD4/PSP4/ECCP1/P1A (io), 3 RD5/PSP5/P1B (io), 4 RD6/PSP6/P1C (io), 5 RD7/PSP7/P1D (io), 6 VSS (power), 7 VDD (power), 8 RB0/INT0/FLT0/AN10 (io), 9 RB1/INT1/AN8 (io), 10 RB2/INT2/CANTX (io), 11 RB3/CANRX (io), 12 NC, 13 NC, 14 RB4/KBI0/AN9 (io), 15 RB5/KBI1/PGM (io), 16 RB6/KBI2/PGC (io), 17 RB7/KBI3/PGD (io), 18 ~{MCLR}/VPP/RE3 (in), 19 RA0/AN0/CVREF (io), 20 RA1/AN1 (io), 21 RA2/AN2/VREF- (io), 22 RA3/AN3/VREF+ (io), 23 RA4/T0CKI (io), 24 RA5/AN4/~{SS}/HLVDIN (io), 25 RE0/~{RD}/AN5 (io), 26 RE1/~{WR}/AN6/C1OUT (io), 27 RE2/~{CS}/AN7/C2OUT (io), 28 VDD (power), 29 VSS (power), 30 OSC1/CLKI/RA7 (io), 31 OSC2/CLKO/RA6 (io), 32 RC0/T1OSO/T13CKI (io), 33 NC, 34 NC, 35 RC1/T1OSI (io), 36 RC2/CCP1 (io), 37 RC3/SCK/SCL (io), 38 RD0/PSP0/C1IN+ (io), 39 RD1/PSP1/C1IN- (io), 40 RD2/PSP2/C2IN+ (io), 41 RD3/PSP3/C2IN- (io), 42 RC4/SDI/SDA (io), 43 RC5/SDO (io), 44 RC6/TX/CK (io)

## PIC18F4685-I/ML
designator U?
Enhanced Flash Microcontroller with ECAN Technology, 10-Bit A/D and nanoWatt Technology, 96K Flash, 44-Pin QFN, Industrial Temperature Range; FirstPublished: 29-Jan-2009; LatestRevisionDate: 02-Dec-2009; LatestRevisionNote: Updated to datasheet revision C, Oct-2009; DatasheetVersion: revC, Oct-2009; PackageVersion: revBB, Aug-2009; PackageReference: QFN-ML44; Publisher: Altium Limited; PackageDescription: 44-Lead Plastic Quad Flat, No Lead Package (ML) - 8x8 mm Body [QFN]; Supplier 1: Digi-Key; Supplier Part Number 1: PIC18F4685-I/ML-ND; Supplier 2: Newark; Supplier Part Number 2: 88K6072; Code_JEDEC: MO-220; Code_IPC: QFN65P800X800-44V2; ComponentLink1Description: Datasheet; ComponentLink1URL: http://ww1.microchip.com/downloads/en/DeviceDoc/39761c.pdf; ComponentLink2Description: Packaging Specification; ComponentLink2URL: http://www.microchip.com/stellent/groups/techpub_sg/documents/packagingspec/en012702.pdf; ComponentLink3Description: Microchip.com Home; ComponentLink3URL: http://www.microchip.com/
footprint QFN-ML44_N (QFN, 44-Leads, Body 8x8 mm, Pitch 0.65mm, IPC Medium Density)
footprint QFN-ML44_L (QFN, 44-Leads, Body 8x8 mm, Pitch 0.65mm, IPC High Density)
footprint QFN-ML44_M (QFN, 44-Leads, Body 8x8 mm, Pitch 0.65mm, IPC Low Density)
pins: 1 RC7/RX/DT (io), 2 RD4/PSP4/ECCP1/P1A (io), 3 RD5/PSP5/P1B (io), 4 RD6/PSP6/P1C (io), 5 RD7/PSP7/P1D (io), 6 VSS (power), 7 AVDD (power), 8 VDD (power), 9 RB0/INT0/FLT0/AN10 (io), 10 RB1/INT1/AN8 (io), 11 RB2/INT2/CANTX (io), 12 RB3/CANRX (io), 13 NC, 14 RB4/KBI0/AN9 (io), 15 RB5/KBI1/PGM (io), 16 RB6/KBI2/PGC (io), 17 RB7/KBI3/PGD (io), 18 ~{MCLR}/VPP/RE3 (in), 19 RA0/AN0/CVREF (io), 20 RA1/AN1 (io), 21 RA2/AN2/VREF- (io), 22 RA3/AN3/VREF+ (io), 23 RA4/T0CKI (io), 24 RA5/AN4/~{SS}/HLVDIN (io), 25 RE0/~{RD}/AN5 (io), 26 RE1/~{WR}/AN6/C1OUT (io), 27 RE2/~{CS}/AN7/C2OUT (io), 28 AVDD (power), 29 VDD (power), 30 AVSS (power), 31 VSS (power), 32 OSC1/CLKI/RA7 (io), 33 OSC2/CLKO/RA6 (io), 34 RC0/T1OSO/T13CKI (io), 35 RC1/T1OSI (io), 36 RC2/CCP1 (io), 37 RC3/SCK/SCL (io), 38 RD0/PSP0/C1IN+ (io), 39 RD1/PSP1/C1IN- (io), 40 RD2/PSP2/C2IN+ (io), 41 RD3/PSP3/C2IN- (io), 42 RC4/SDI/SDA (io), 43 RC5/SDO (io), 44 RC6/TX/CK (io), 45 Thermal Pad (power)

## PIC18F4685-I/P
designator U?
Enhanced Flash Microcontroller with ECAN Technology, 10-Bit A/D and nanoWatt Technology, 96K Flash, 40-Pin PDIP, Industrial Temperature Range; FirstPublished: 29-Jan-2009; LatestRevisionDate: 02-Dec-2009; LatestRevisionNote: Updated to datasheet revision C, Oct-2009; DatasheetVersion: revC, Oct-2009; PackageVersion: revBB, Aug-2009; PackageReference: PDIP600-P40; Publisher: Altium Limited; PackageDescription: 40-Lead Plastic Dual In-Line (P) - 600 mil Body [PDIP]; Supplier 1: Digi-Key; Supplier Part Number 1: PIC18F4685-I/P-ND; Supplier 2: Farnell; Supplier Part Number 2: 1332274; Supplier 3: Newark; Supplier Part Number 3: 88K6073; ComponentLink1Description: Datasheet; ComponentLink1URL: http://ww1.microchip.com/downloads/en/DeviceDoc/39761c.pdf; ComponentLink2Description: Packaging Specification; ComponentLink2URL: http://www.microchip.com/stellent/groups/techpub_sg/documents/packagingspec/en012702.pdf; ComponentLink3Description: Microchip.com Home; ComponentLink3URL: http://www.microchip.com/
footprint PDIP600-P40 (DIP, 40-Leads, Row Spacing 15.24mm, Pitch 2.54mm, Body 51.8x13.5mm)
pins: 1 ~{MCLR}/VPP/RE3 (in), 2 RA0/AN0/CVREF (io), 3 RA1/AN1 (io), 4 RA2/AN2/VREF- (io), 5 RA3/AN3/VREF+ (io), 6 RA4/T0CKI (io), 7 RA5/AN4/~{SS}/HLVDIN (io), 8 RE0/~{RD}/AN5 (io), 9 RE1/~{WR}/AN6/C1OUT (io), 10 RE2/~{CS}/AN7/C2OUT (io), 11 VDD (power), 12 VSS (power), 13 OSC1/CLKI/RA7 (io), 14 OSC2/CLKO/RA6 (io), 15 RC0/T1OSO/T13CKI (io), 16 RC1/T1OSI (io), 17 RC2/CCP1 (io), 18 RC3/SCK/SCL (io), 19 RD0/PSP0/C1IN+ (io), 20 RD1/PSP1/C1IN- (io), 21 RD2/PSP2/C2IN+ (io), 22 RD3/PSP3/C2IN- (io), 23 RC4/SDI/SDA (io), 24 RC5/SDO (io), 25 RC6/TX/CK (io), 26 RC7/RX/DT (io), 27 RD4/PSP4/ECCP1/P1A (io), 28 RD5/PSP5/P1B (io), 29 RD6/PSP6/P1C (io), 30 RD7/PSP7/P1D (io), 31 VSS (power), 32 VDD (power), 33 RB0/INT0/FLT0/AN10 (io), 34 RB1/INT1/AN8 (io), 35 RB2/INT2/CANTX (io), 36 RB3/CANRX (io), 37 RB4/KBI0/AN9 (io), 38 RB5/KBI1/PGM (io), 39 RB6/KBI2/PGC (io), 40 RB7/KBI3/PGD (io)

## PIC18F4685-I/PREL
designator U?
Enhanced Flash Microcontroller with ECAN Technology, 10-Bit A/D and nanoWatt Technology, 96K Flash, 40-Pin PDIP, Industrial Temperature Range; ComponentAvailability: Unknown. Contact manufacturer to determine status.; FirstPublished: 29-Jan-2009; LatestRevisionDate: 02-Dec-2009; LatestRevisionNote: Updated to datasheet revision C, Oct-2009; DatasheetVersion: revC, Oct-2009; PackageVersion: revBB, Aug-2009; PackageReference: PDIP600-P40; Publisher: Altium Limited; PackageDescription: 40-Lead Plastic Dual In-Line (P) - 600 mil Body [PDIP]; ComponentLink1Description: Datasheet; ComponentLink1URL: http://ww1.microchip.com/downloads/en/DeviceDoc/39761c.pdf; ComponentLink2Description: Packaging Specification; ComponentLink2URL: http://www.microchip.com/stellent/groups/techpub_sg/documents/packagingspec/en012702.pdf; ComponentLink3Description: Microchip.com Home; ComponentLink3URL: http://www.microchip.com/
footprint PDIP600-P40 (DIP, 40-Leads, Row Spacing 15.24mm, Pitch 2.54mm, Body 51.8x13.5mm)
pins: 1 ~{MCLR}/VPP/RE3 (in), 2 RA0/AN0/CVREF (io), 3 RA1/AN1 (io), 4 RA2/AN2/VREF- (io), 5 RA3/AN3/VREF+ (io), 6 RA4/T0CKI (io), 7 RA5/AN4/~{SS}/HLVDIN (io), 8 RE0/~{RD}/AN5 (io), 9 RE1/~{WR}/AN6/C1OUT (io), 10 RE2/~{CS}/AN7/C2OUT (io), 11 VDD (power), 12 VSS (power), 13 OSC1/CLKI/RA7 (io), 14 OSC2/CLKO/RA6 (io), 15 RC0/T1OSO/T13CKI (io), 16 RC1/T1OSI (io), 17 RC2/CCP1 (io), 18 RC3/SCK/SCL (io), 19 RD0/PSP0/C1IN+ (io), 20 RD1/PSP1/C1IN- (io), 21 RD2/PSP2/C2IN+ (io), 22 RD3/PSP3/C2IN- (io), 23 RC4/SDI/SDA (io), 24 RC5/SDO (io), 25 RC6/TX/CK (io), 26 RC7/RX/DT (io), 27 RD4/PSP4/ECCP1/P1A (io), 28 RD5/PSP5/P1B (io), 29 RD6/PSP6/P1C (io), 30 RD7/PSP7/P1D (io), 31 VSS (power), 32 VDD (power), 33 RB0/INT0/FLT0/AN10 (io), 34 RB1/INT1/AN8 (io), 35 RB2/INT2/CANTX (io), 36 RB3/CANRX (io), 37 RB4/KBI0/AN9 (io), 38 RB5/KBI1/PGM (io), 39 RB6/KBI2/PGC (io), 40 RB7/KBI3/PGD (io)

## PIC18F4685-I/PT
designator U?
Enhanced Flash Microcontroller with ECAN Technology, 10-Bit A/D and nanoWatt Technology, 96K Flash, 44-Pin TQFP, Industrial Temperature Range; FirstPublished: 29-Jan-2009; LatestRevisionDate: 02-Dec-2009; LatestRevisionNote: Updated to datasheet revision C, Oct-2009; DatasheetVersion: revC, Oct-2009; PackageVersion: revBB, Aug-2009; PackageReference: TQFP-PT44; Publisher: Altium Limited; PackageDescription: 44-Lead Plastic Thin Quad Flatpack (PT) - 10x10x1mm Body, 2.00mm [TQFP]; Supplier 1: Digi-Key; Supplier Part Number 1: PIC18F4685-I/PT-ND; Supplier 2: Farnell; Supplier Part Number 2: 1332275; Supplier 3: Newark; Supplier Part Number 3: 88K6074; Code_JEDEC: MS-026; ComponentLink1Description: Datasheet; ComponentLink1URL: http://ww1.microchip.com/downloads/en/DeviceDoc/39761c.pdf; ComponentLink2Description: Packaging Specification; ComponentLink2URL: http://www.microchip.com/stellent/groups/techpub_sg/documents/packagingspec/en012702.pdf; ComponentLink3Description: Microchip.com Home; ComponentLink3URL: http://www.microchip.com/
footprint TQFP-PT44_N (Thin QFP, 44-Leads, Body 10x10mm, Pitch 0.8mm, IPC Medium Density)
footprint TQFP-PT44_L (Thin QFP, 44-Leads, Body 10x10mm, Pitch 0.8mm, IPC High Density)
footprint TQFP-PT44_M (Thin QFP, 44-Leads, Body 10x10mm, Pitch 0.8mm, IPC Low Density)
pins: 1 RC7/RX/DT (io), 2 RD4/PSP4/ECCP1/P1A (io), 3 RD5/PSP5/P1B (io), 4 RD6/PSP6/P1C (io), 5 RD7/PSP7/P1D (io), 6 VSS (power), 7 VDD (power), 8 RB0/INT0/FLT0/AN10 (io), 9 RB1/INT1/AN8 (io), 10 RB2/INT2/CANTX (io), 11 RB3/CANRX (io), 12 NC, 13 NC, 14 RB4/KBI0/AN9 (io), 15 RB5/KBI1/PGM (io), 16 RB6/KBI2/PGC (io), 17 RB7/KBI3/PGD (io), 18 ~{MCLR}/VPP/RE3 (in), 19 RA0/AN0/CVREF (io), 20 RA1/AN1 (io), 21 RA2/AN2/VREF- (io), 22 RA3/AN3/VREF+ (io), 23 RA4/T0CKI (io), 24 RA5/AN4/~{SS}/HLVDIN (io), 25 RE0/~{RD}/AN5 (io), 26 RE1/~{WR}/AN6/C1OUT (io), 27 RE2/~{CS}/AN7/C2OUT (io), 28 VDD (power), 29 VSS (power), 30 OSC1/CLKI/RA7 (io), 31 OSC2/CLKO/RA6 (io), 32 RC0/T1OSO/T13CKI (io), 33 NC, 34 NC, 35 RC1/T1OSI (io), 36 RC2/CCP1 (io), 37 RC3/SCK/SCL (io), 38 RD0/PSP0/C1IN+ (io), 39 RD1/PSP1/C1IN- (io), 40 RD2/PSP2/C2IN+ (io), 41 RD3/PSP3/C2IN- (io), 42 RC4/SDI/SDA (io), 43 RC5/SDO (io), 44 RC6/TX/CK (io)

## PIC18F4685-I/PXXX
designator U?
Enhanced Flash Microcontroller with ECAN Technology, 10-Bit A/D and nanoWatt Technology, 96K Flash, 40-Pin PDIP, Industrial Temperature Range; FirstPublished: 29-Jan-2009; LatestRevisionDate: 02-Dec-2009; LatestRevisionNote: Updated to datasheet revision C, Oct-2009; DatasheetVersion: revC, Oct-2009; PackageVersion: revBB, Aug-2009; PackageReference: PDIP600-P40; Publisher: Altium Limited; PackageDescription: 40-Lead Plastic Dual In-Line (P) - 600 mil Body [PDIP]; ComponentLink1Description: Datasheet; ComponentLink1URL: http://ww1.microchip.com/downloads/en/DeviceDoc/39761c.pdf; ComponentLink2Description: Packaging Specification; ComponentLink2URL: http://www.microchip.com/stellent/groups/techpub_sg/documents/packagingspec/en012702.pdf; ComponentLink3Description: Microchip.com Home; ComponentLink3URL: http://www.microchip.com/
footprint PDIP600-P40 (DIP, 40-Leads, Row Spacing 15.24mm, Pitch 2.54mm, Body 51.8x13.5mm)
pins: 1 ~{MCLR}/VPP/RE3 (in), 2 RA0/AN0/CVREF (io), 3 RA1/AN1 (io), 4 RA2/AN2/VREF- (io), 5 RA3/AN3/VREF+ (io), 6 RA4/T0CKI (io), 7 RA5/AN4/~{SS}/HLVDIN (io), 8 RE0/~{RD}/AN5 (io), 9 RE1/~{WR}/AN6/C1OUT (io), 10 RE2/~{CS}/AN7/C2OUT (io), 11 VDD (power), 12 VSS (power), 13 OSC1/CLKI/RA7 (io), 14 OSC2/CLKO/RA6 (io), 15 RC0/T1OSO/T13CKI (io), 16 RC1/T1OSI (io), 17 RC2/CCP1 (io), 18 RC3/SCK/SCL (io), 19 RD0/PSP0/C1IN+ (io), 20 RD1/PSP1/C1IN- (io), 21 RD2/PSP2/C2IN+ (io), 22 RD3/PSP3/C2IN- (io), 23 RC4/SDI/SDA (io), 24 RC5/SDO (io), 25 RC6/TX/CK (io), 26 RC7/RX/DT (io), 27 RD4/PSP4/ECCP1/P1A (io), 28 RD5/PSP5/P1B (io), 29 RD6/PSP6/P1C (io), 30 RD7/PSP7/P1D (io), 31 VSS (power), 32 VDD (power), 33 RB0/INT0/FLT0/AN10 (io), 34 RB1/INT1/AN8 (io), 35 RB2/INT2/CANTX (io), 36 RB3/CANRX (io), 37 RB4/KBI0/AN9 (io), 38 RB5/KBI1/PGM (io), 39 RB6/KBI2/PGC (io), 40 RB7/KBI3/PGD (io)

## PIC18F4685T-I/ML
designator U?
Enhanced Flash Microcontroller with ECAN Technology, 10-Bit A/D and nanoWatt Technology, 96K Flash, 44-Pin QFN, Industrial Temperature Range, Tape and Reel; FirstPublished: 29-Jan-2009; LatestRevisionDate: 02-Dec-2009; LatestRevisionNote: Updated to datasheet revision C, Oct-2009; DatasheetVersion: revC, Oct-2009; PackageVersion: revBB, Aug-2009; PackageReference: QFN-ML44; Publisher: Altium Limited; PackageDescription: 44-Lead Plastic Quad Flat, No Lead Package (ML) - 8x8 mm Body [QFN]; Supplier 1: Digi-Key; Supplier Part Number 1: PIC18F4685T-I/ML-ND; Supplier 2: Newark; Supplier Part Number 2: 88K6075; Code_JEDEC: MO-220; Code_IPC: QFN65P800X800-44V2; ComponentLink1Description: Datasheet; ComponentLink1URL: http://ww1.microchip.com/downloads/en/DeviceDoc/39761c.pdf; ComponentLink2Description: Packaging Specification; ComponentLink2URL: http://www.microchip.com/stellent/groups/techpub_sg/documents/packagingspec/en012702.pdf; ComponentLink3Description: Microchip.com Home; ComponentLink3URL: http://www.microchip.com/
footprint QFN-ML44_N (QFN, 44-Leads, Body 8x8 mm, Pitch 0.65mm, IPC Medium Density)
footprint QFN-ML44_L (QFN, 44-Leads, Body 8x8 mm, Pitch 0.65mm, IPC High Density)
footprint QFN-ML44_M (QFN, 44-Leads, Body 8x8 mm, Pitch 0.65mm, IPC Low Density)
pins: 1 RC7/RX/DT (io), 2 RD4/PSP4/ECCP1/P1A (io), 3 RD5/PSP5/P1B (io), 4 RD6/PSP6/P1C (io), 5 RD7/PSP7/P1D (io), 6 VSS (power), 7 AVDD (power), 8 VDD (power), 9 RB0/INT0/FLT0/AN10 (io), 10 RB1/INT1/AN8 (io), 11 RB2/INT2/CANTX (io), 12 RB3/CANRX (io), 13 NC, 14 RB4/KBI0/AN9 (io), 15 RB5/KBI1/PGM (io), 16 RB6/KBI2/PGC (io), 17 RB7/KBI3/PGD (io), 18 ~{MCLR}/VPP/RE3 (in), 19 RA0/AN0/CVREF (io), 20 RA1/AN1 (io), 21 RA2/AN2/VREF- (io), 22 RA3/AN3/VREF+ (io), 23 RA4/T0CKI (io), 24 RA5/AN4/~{SS}/HLVDIN (io), 25 RE0/~{RD}/AN5 (io), 26 RE1/~{WR}/AN6/C1OUT (io), 27 RE2/~{CS}/AN7/C2OUT (io), 28 AVDD (power), 29 VDD (power), 30 AVSS (power), 31 VSS (power), 32 OSC1/CLKI/RA7 (io), 33 OSC2/CLKO/RA6 (io), 34 RC0/T1OSO/T13CKI (io), 35 RC1/T1OSI (io), 36 RC2/CCP1 (io), 37 RC3/SCK/SCL (io), 38 RD0/PSP0/C1IN+ (io), 39 RD1/PSP1/C1IN- (io), 40 RD2/PSP2/C2IN+ (io), 41 RD3/PSP3/C2IN- (io), 42 RC4/SDI/SDA (io), 43 RC5/SDO (io), 44 RC6/TX/CK (io), 45 Thermal Pad (power)

## PIC18F4685T-I/PT
designator U?
Enhanced Flash Microcontroller with ECAN Technology, 10-Bit A/D and nanoWatt Technology, 96K Flash, 44-Pin TQFP, Industrial Temperature Range, Tape and Reel; FirstPublished: 29-Jan-2009; LatestRevisionDate: 02-Dec-2009; LatestRevisionNote: Updated to datasheet revision C, Oct-2009; DatasheetVersion: revC, Oct-2009; PackageVersion: revBB, Aug-2009; PackageReference: TQFP-PT44; Publisher: Altium Limited; PackageDescription: 44-Lead Plastic Thin Quad Flatpack (PT) - 10x10x1mm Body, 2.00mm [TQFP]; Supplier 1: Digi-Key; Supplier Part Number 1: PIC18F4685T-I/PT-ND; Supplier 2: Newark; Supplier Part Number 2: 88K6076; Code_JEDEC: MS-026; ComponentLink1Description: Datasheet; ComponentLink1URL: http://ww1.microchip.com/downloads/en/DeviceDoc/39761c.pdf; ComponentLink2Description: Packaging Specification; ComponentLink2URL: http://www.microchip.com/stellent/groups/techpub_sg/documents/packagingspec/en012702.pdf; ComponentLink3Description: Microchip.com Home; ComponentLink3URL: http://www.microchip.com/
footprint TQFP-PT44_N (Thin QFP, 44-Leads, Body 10x10mm, Pitch 0.8mm, IPC Medium Density)
footprint TQFP-PT44_L (Thin QFP, 44-Leads, Body 10x10mm, Pitch 0.8mm, IPC High Density)
footprint TQFP-PT44_M (Thin QFP, 44-Leads, Body 10x10mm, Pitch 0.8mm, IPC Low Density)
pins: 1 RC7/RX/DT (io), 2 RD4/PSP4/ECCP1/P1A (io), 3 RD5/PSP5/P1B (io), 4 RD6/PSP6/P1C (io), 5 RD7/PSP7/P1D (io), 6 VSS (power), 7 VDD (power), 8 RB0/INT0/FLT0/AN10 (io), 9 RB1/INT1/AN8 (io), 10 RB2/INT2/CANTX (io), 11 RB3/CANRX (io), 12 NC, 13 NC, 14 RB4/KBI0/AN9 (io), 15 RB5/KBI1/PGM (io), 16 RB6/KBI2/PGC (io), 17 RB7/KBI3/PGD (io), 18 ~{MCLR}/VPP/RE3 (in), 19 RA0/AN0/CVREF (io), 20 RA1/AN1 (io), 21 RA2/AN2/VREF- (io), 22 RA3/AN3/VREF+ (io), 23 RA4/T0CKI (io), 24 RA5/AN4/~{SS}/HLVDIN (io), 25 RE0/~{RD}/AN5 (io), 26 RE1/~{WR}/AN6/C1OUT (io), 27 RE2/~{CS}/AN7/C2OUT (io), 28 VDD (power), 29 VSS (power), 30 OSC1/CLKI/RA7 (io), 31 OSC2/CLKO/RA6 (io), 32 RC0/T1OSO/T13CKI (io), 33 NC, 34 NC, 35 RC1/T1OSI (io), 36 RC2/CCP1 (io), 37 RC3/SCK/SCL (io), 38 RD0/PSP0/C1IN+ (io), 39 RD1/PSP1/C1IN- (io), 40 RD2/PSP2/C2IN+ (io), 41 RD3/PSP3/C2IN- (io), 42 RC4/SDI/SDA (io), 43 RC5/SDO (io), 44 RC6/TX/CK (io)

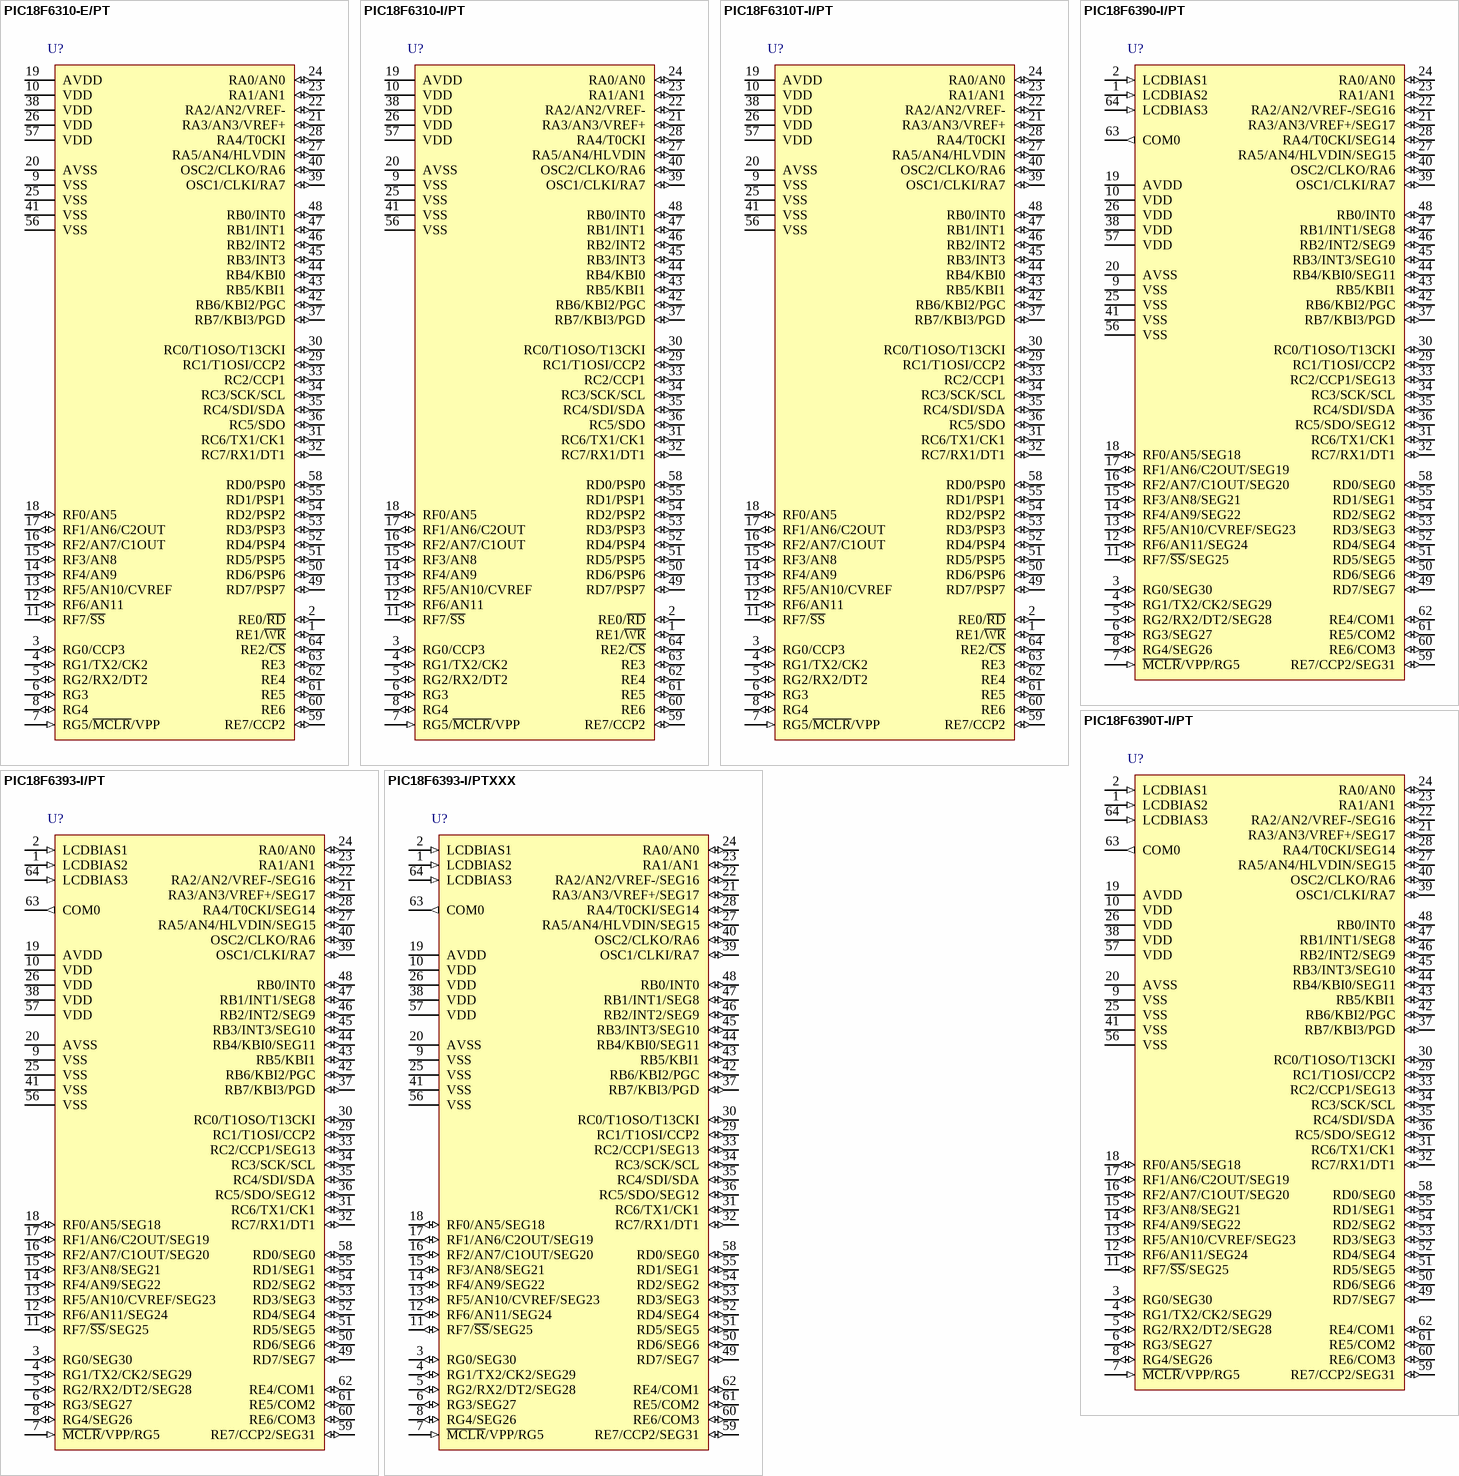
[diagram p83: symbols PIC18F6310-E/PT to PIC18F6393-I/PTXXX]